# EAGLE library part TPS6206* (library alvie)
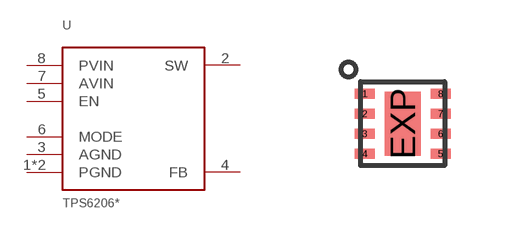
[diagram p65: symbol with the pads of WSON8-2.1X2.1; footprint WSON8-2.1X2.1]

Designator prefix -

## TPS62063  [WSON8-2.1X2.1]
1  PGND  pwr
2  SW  pwr
3  AGND  pwr
4  FB  pwr
5  EN
6  MODE
7  AVIN  pwr
8  PVIN  pwr
EXP  PGND  pwr

## Footprint WSON8-2.1X2.1 (pad centres in mm)
smd 0.5 x 0.25: 1 -0.95,0.75; 2 -0.95,0.25; 3 -0.95,-0.25; 4 -0.95,-0.75; 5 0.95,-0.75; 6 0.95,-0.25; 7 0.95,0.25; 8 0.95,0.75
smd 0.9 x 1.6: EXP 0,0